# Altium schematic symbol library Schlib1.SchLib: 7 symbols
Pins are listed as number, name and electrical type; pins without a type are passive.

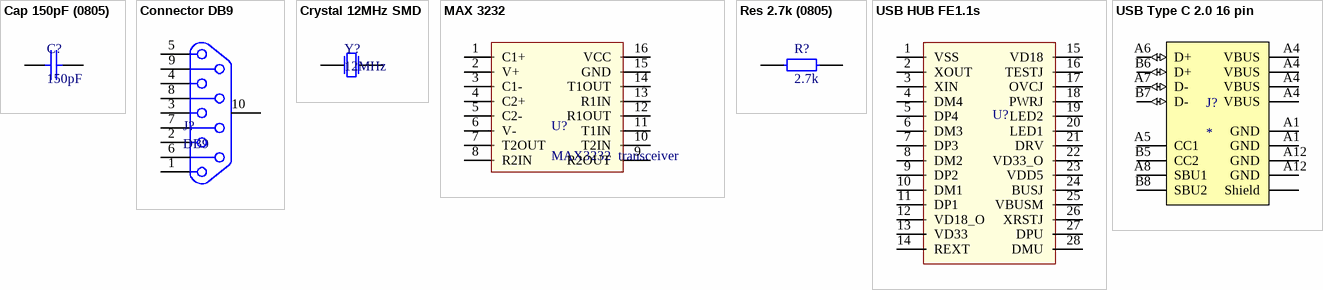
[diagram p0: symbols Cap 150pF (0805) to USB Type C 2.0 16 pin]

## Cap 150pF (0805)
designator C?, comment 150pF
150pF NPO 5% 50V 0805; Manufacturer: Murata; Part Number: GRM2165C1H151JA01D; Type: Capacitor; ComponentLink1Description: Chip&Dip; ComponentLink1URL: https://www.chipdip.ru/product/grm2165c1h151j
footprint 0805 Capicator
pins: 1, 2

## Connector DB9
designator J?, comment DB9
CONN D-SUB PLUG 9POS R/A SOLDER; Part Number: DR09S-H-CN; Manufacturer: Auk Contractors; ComponentLink1Description: DataSheet; ComponentLink1URL: https://static.chipdip.ru/lib/009/DOC004009535.pdf; ComponentLink2Description: Chip&Dip; ComponentLink2URL: https://www.chipdip.ru/product/dr09s-h-cn-drb-9fa-dbr-9f; Type: Connector
footprint DB9
pins: 1, 2, 3, 4, 5, 6, 7, 8, 9, 10 3

## Crystal 12MHz SMD
designator Y?, comment 12MHz
Crystal. HC-49SM (US); Manufacturer: China; Part Number: 12.000MHzHC-49SM; Type: Crystal; ComponentLink1Description: Chip&Dip; ComponentLink1URL: https://www.chipdip.ru/product/12mhz-hc-49sm
footprint hc-49sm
pins: 1, 2

## MAX 3232
designator U?, comment MAX3232  transceiver
RS-232 Dual Transmitters/Receivers, Maxim Integrated; Part Number: MAX3232CSE+T; Type: Transceiver; Manufacturer: Maxim; ComponentLink1Description: Chip&Dip; ComponentLink1URL: https://www.chipdip.ru/product/max3232cse; ComponentLink2Description: Datasheet; ComponentLink2URL: https://static.chipdip.ru/lib/222/DOC000222323.pdf
footprint TSSOP-16
pins: 1 C1+, 2 V+, 3 C1-, 4 C2+, 5 C2-, 6 V-, 7 T2OUT, 8 R2IN, 9 R2OUT, 10 T2IN, 11 T1IN, 12 R1OUT, 13 R1IN, 14 T1OUT, 15 GND, 16 VCC

## Res 2.7k (0805)
designator R?, comment 2.7k
0.125Вт 0805 2.7 кОм, 1%; ComponentLink1Description: Chip&Dip; ComponentLink1URL: https://www.chipdip.ru/product0/9000079496; ComponentLink2Description: Datasheet; ComponentLink2URL: https://static.chipdip.ru/lib/788/DOC004788200.pdf
footprint Res 2.7k (0805) (2.7k)
pins: 1, 2

## USB HUB FE1.1s
designator U?
USB 2.0 HIGH SPEED 4-PORT HUB CONTROLLER; ComponentLink1Description: Chip&Dip; ComponentLink1URL: https://www.chipdip.ru/product1/8003564136; ComponentLink2Description: Datasheet; ComponentLink2URL: https://cdn-shop.adafruit.com/product-files/2991/FE1.1s+Data+Sheet+(Rev.+1.0).pdf; Type: Hub
footprint USB HUB FE1.1s
pins: 1 VSS, 2 XOUT, 3 XIN, 4 DM4, 5 DP4, 6 DM3, 7 DP3, 8 DM2, 9 DP2, 10 DM1, 11 DP1, 12 VD18_O, 13 VD33, 14 REXT, 15 VD18, 16 TESTJ, 17 OVCJ, 18 PWRJ, 19 LED2, 20 LED1, 21 DRV, 22 VD33_O, 23 VDD5, 24 BUSJ, 25 VBUSM, 26 XRSTJ, 27 DPU, 28 DMU

## USB Type C 2.0 16 pin
designator J?
footprint USB Type C 16pin
pins: A Shield (power), A1 GND (power), A1 GND (power), A4 VBUS (power), A4 VBUS (power), A4 VBUS (power), A4 VBUS (power), A5 CC1, A6 D+ (io), A7 D- (io), A8 SBU1, A12 GND (power), A12 GND (power), B5 CC2, B6 D+ (io), B7 D- (io), B8 SBU2